# Altium integrated library CA3140AMZ.IntLib: 1 symbol
Pins are listed as number, name and electrical type; pins without a type are passive.

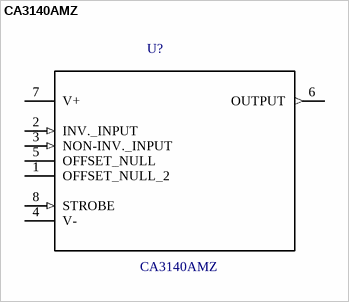
[diagram p0: symbol CA3140AMZ]

## CA3140AMZ
designator U?
CA140 Series 4.5 MHz 9 V/us 36 V BiMOS Operational Amplifier - SOIC-8; MF: Renesas Electronics; Availability: Unavailable; Package: SOIC-8 Intersil; SnapEDA_Link: https://www.snapeda.com/parts/CA3140AMZ/Renesas%20Electronics%20America%20Inc./view-part/?ref=snap; Price: None; MP: CA3140AMZ; Value: *
footprint SOIC127P600X175-8N
pins: 1 OFFSET_NULL_2, 2 INV._INPUT (in), 3 NON-INV._INPUT (in), 4 V- (power), 5 OFFSET_NULL, 6 OUTPUT (out), 7 V+ (power), 8 STROBE (in)